# Altium footprint library PCB - SWITCHES - CAS-D20TB.PCBLIB: 1 footprints
Each footprint in its own frame and in the unit in brackets; x right, y up, seen from the top. Pads: shape width x height; smd on the part's side, far side on the other; paste and mask are expansions set on the pad; w line width, h text height; cw(c..) or ccw(c..) is an arc to the next point about the centre after c.
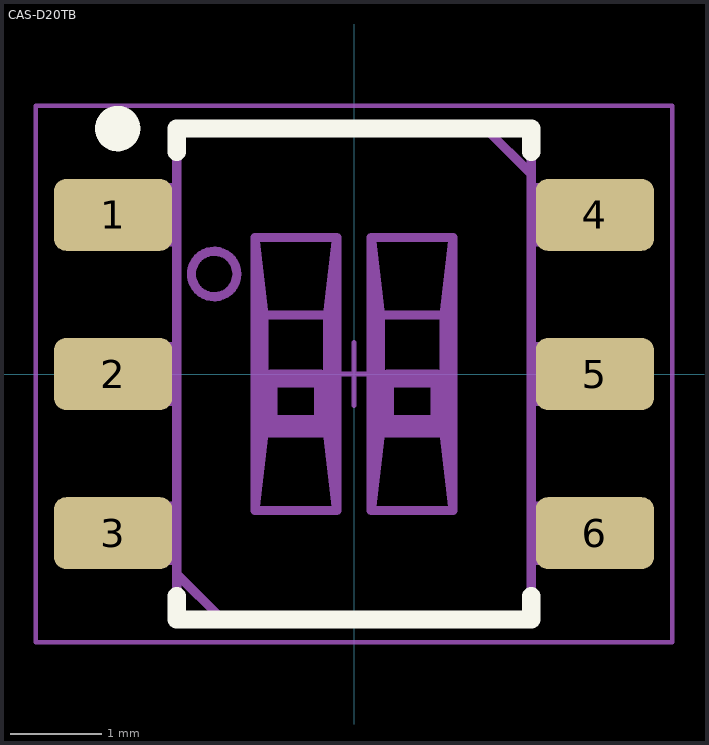
[diagram p0: the footprint, top view; thin cyan lines are the x and y axes]

## CAS-D20TB [mm] "Small Outline IC (SOIC), 1.75 mm pitch; 6 pin, 5.40 mm L X 3.90 mm W X 2.50 mm H body"
height 2.5
pads (6):
  rrect33% 1.3x0.79 smd: 1(-2.65,1.75) 2(-2.65,0) 3(-2.65,-1.75) 4(2.65,1.75) 5(2.65,0) 6(2.65,-1.75)
Top Overlay:
  circle w0.25: c-2.6,2.7 r0.125
  lines w0.2: -1.95,-2.445 -1.95,-2.7 1.95,-2.7 1.95,-2.445 ; -1.95,2.445 -1.95,2.7 1.95,2.7 1.95,2.445
Top Assembly:
  drawing of 749 lines, arcs and shapes, not listed
Top Courtyard:
  lines w0.05: -3.5,-2.95 3.5,-2.95 3.5,2.95 -3.5,2.95 -3.5,-2.95
Top Designator:
  text ".Designator" at -0.7,-0.3 h1
Top Component Center:
  lines w0.05: -0.35,0 0.35,0 ; 0,-0.35 0,0.35
3D body "CAS-D20TB.stp": height 2.51, standoff 0.01, extent -2.8,-2.7 2.8,2.7